# EAGLE library part M08 (library KwanSystems)
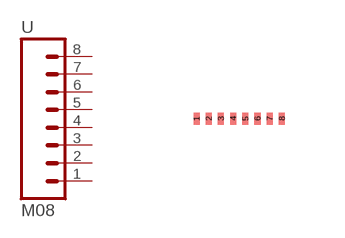
[diagram p10: symbol with the pads of M08_INTERFACE; footprint M08_INTERFACE]

Designator prefix -

## M08  [M08_INTERFACE]
1  1  pas
2  2  pas
3  3  pas
4  4  pas
5  5  pas
6  6  pas
7  7  pas
8  8  pas

## Footprint M08_INTERFACE (pad centres in mm)
smd 0.152 x 0.305: 1 0,0; 2 0.305,0; 3 0.61,0; 4 0.914,0; 5 1.219,0; 6 1.524,0; 7 1.829,0; 8 2.134,0